# EAGLE library part STM32-M-64 (library stm32)
STM32F103 Medium Density 64pin LQFP
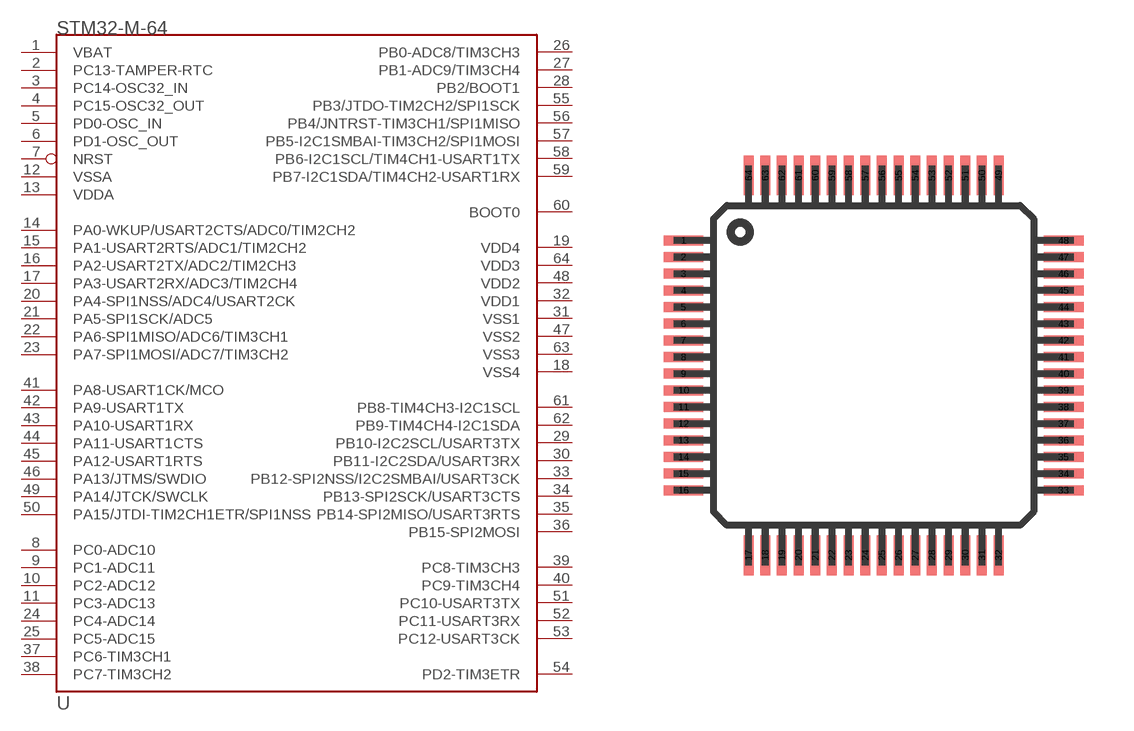
[diagram p2: symbol with the pads of TQFP64; footprint TQFP64]

Designator prefix U

## STM32-M-64  [TQFP64]
1  VBAT  sup
2  PC13-TAMPER-RTC
3  PC14-OSC32_IN
4  PC15-OSC32_OUT
5  PD0-OSC_IN  in
6  PD1-OSC_OUT  out
7  NRST
8  PC0-ADC10
9  PC1-ADC11
10  PC2-ADC12
11  PC3-ADC13
12  VSSA  sup
13  VDDA  sup
14  PA0-WKUP/USART2CTS/ADC0/TIM2CH2
15  PA1-USART2RTS/ADC1/TIM2CH2
16  PA2-USART2TX/ADC2/TIM2CH3
17  PA3-USART2RX/ADC3/TIM2CH4
18  VSS4
19  VDD4
20  PA4-SPI1NSS/ADC4/USART2CK
21  PA5-SPI1SCK/ADC5
22  PA6-SPI1MISO/ADC6/TIM3CH1
23  PA7-SPI1MOSI/ADC7/TIM3CH2
24  PC4-ADC14
25  PC5-ADC15
26  PB0-ADC8/TIM3CH3
27  PB1-ADC9/TIM3CH4
28  PB2/BOOT1
29  PB10-I2C2SCL/USART3TX
30  PB11-I2C2SDA/USART3RX
31  VSS1  sup
32  VDD1  sup
33  PB12-SPI2NSS/I2C2SMBAI/USART3CK
34  PB13-SPI2SCK/USART3CTS
35  PB14-SPI2MISO/USART3RTS
36  PB15-SPI2MOSI
37  PC6-TIM3CH1
38  PC7-TIM3CH2
39  PC8-TIM3CH3
40  PC9-TIM3CH4
41  PA8-USART1CK/MCO
42  PA9-USART1TX
43  PA10-USART1RX
44  PA11-USART1CTS
45  PA12-USART1RTS
46  PA13/JTMS/SWDIO
47  VSS2  sup
48  VDD2  sup
49  PA14/JTCK/SWCLK
50  PA15/JTDI-TIM2CH1ETR/SPI1NSS
51  PC10-USART3TX
52  PC11-USART3RX
53  PC12-USART3CK
54  PD2-TIM3ETR
55  PB3/JTDO-TIM2CH2/SPI1SCK
56  PB4/JNTRST-TIM3CH1/SPI1MISO
57  PB5-I2C1SMBAI-TIM3CH2/SPI1MOSI
58  PB6-I2C1SCL/TIM4CH1-USART1TX
59  PB7-I2C1SDA/TIM4CH2-USART1RX
60  BOOT0  in
61  PB8-TIM4CH3-I2C1SCL
62  PB9-TIM4CH4-I2C1SDA
63  VSS3  sup
64  VDD3  sup

## Footprint TQFP64 (pad centres in mm)
smd 1.2 x 0.3: 1 -5.7,3.75; 2 -5.7,3.25; 3 -5.7,2.75; 4 -5.7,2.25; 5 -5.7,1.75; 6 -5.7,1.25; 7 -5.7,0.75; 8 -5.7,0.25; 9 -5.7,-0.25; 10 -5.7,-0.75; 11 -5.7,-1.25; 12 -5.7,-1.75; 13 -5.7,-2.25; 14 -5.7,-2.75; 15 -5.7,-3.25; 16 -5.7,-3.75; 33 5.7,-3.75; 34 5.7,-3.25; 35 5.7,-2.75; 36 5.7,-2.25; 37 5.7,-1.75; 38 5.7,-1.25; 39 5.7,-0.75; 40 5.7,-0.25; 41 5.7,0.25; 42 5.7,0.75; 43 5.7,1.25; 44 5.7,1.75; 45 5.7,2.25; 46 5.7,2.75; 47 5.7,3.25; 48 5.7,3.75
smd 0.3 x 1.2: 17 -3.75,-5.7; 18 -3.25,-5.7; 19 -2.75,-5.7; 20 -2.25,-5.7; 21 -1.75,-5.7; 22 -1.25,-5.7; 23 -0.75,-5.7; 24 -0.25,-5.7; 25 0.25,-5.7; 26 0.75,-5.7; 27 1.25,-5.7; 28 1.75,-5.7; 29 2.25,-5.7; 30 2.75,-5.7; 31 3.25,-5.7; 32 3.75,-5.7; 49 3.75,5.7; 50 3.25,5.7; 51 2.75,5.7; 52 2.25,5.7; 53 1.75,5.7; 54 1.25,5.7; 55 0.75,5.7; 56 0.25,5.7; 57 -0.25,5.7; 58 -0.75,5.7; 59 -1.25,5.7; 60 -1.75,5.7; 61 -2.25,5.7; 62 -2.75,5.7; 63 -3.25,5.7; 64 -3.75,5.7